# EAGLE library part LIS3LV02DQ (library ST Microelectronics)
MEMS INERTIAL SENSOR
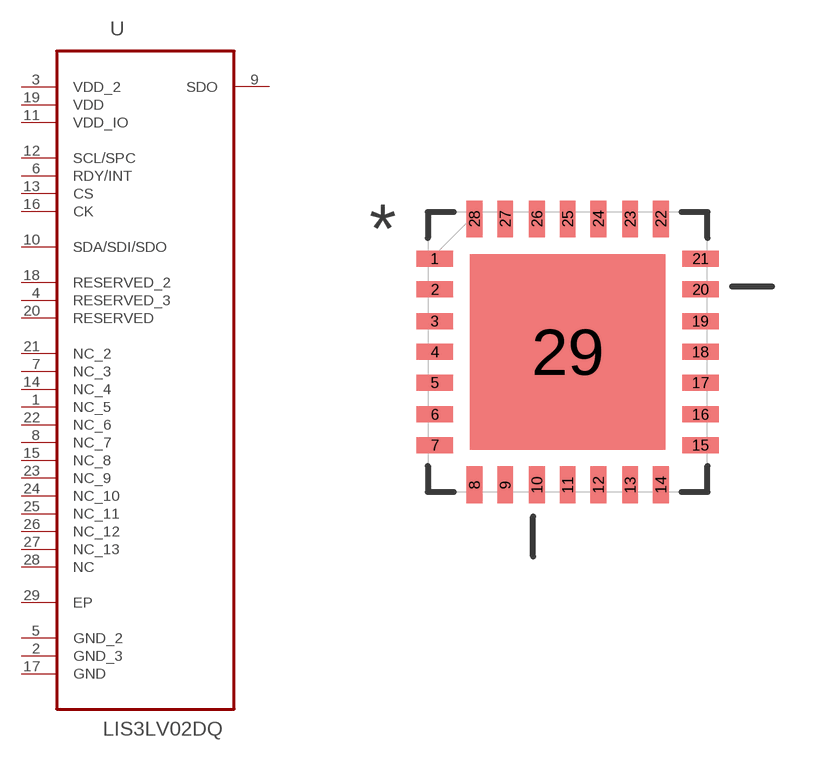
[diagram p84: symbol with the pads of QFN80P700X700X190-29N; footprint QFN80P700X700X190-29N]

Designator prefix U

## LIS3LV02DQ (MPN: LIS3LV02DQ; OC_FARNELL: 1220909; OC_NEWARK: 89K0642; PACKAGE: QFN-28; SUPPLIER: STMICROELECTRONICS)  [QFN80P700X700X190-29N]
1  NC_5  nc
2  GND_3  pas
3  VDD_2  pwr
4  RESERVED_3  pas
5  GND_2  pas
6  RDY/INT  in
7  NC_3  nc
8  NC_7  nc
9  SDO  out
10  SDA/SDI/SDO
11  VDD_IO  pwr
12  SCL/SPC  in
13  CS  in
14  NC_4  nc
15  NC_8  nc
16  CK  in
17  GND  pas
18  RESERVED_2  pas
19  VDD  pwr
20  RESERVED  pwr
21  NC_2  nc
22  NC_6  nc
23  NC_9  nc
24  NC_10  nc
25  NC_11  nc
26  NC_12  nc
27  NC_13  nc
28  NC  nc
29  EP  pas

## Footprint QFN80P700X700X190-29N (pad centres in mm)
smd 0.94 x 0.406: 1 -3.404,2.388; 2 -3.404,1.6; 3 -3.404,0.787; 4 -3.404,0; 5 -3.404,-0.787; 6 -3.404,-1.6; 7 -3.404,-2.388; 15 3.404,-2.388; 16 3.404,-1.6; 17 3.404,-0.787; 18 3.404,0; 19 3.404,0.787; 20 3.404,1.6; 21 3.404,2.388
smd 0.406 x 0.94: 8 -2.388,-3.404; 9 -1.6,-3.404; 10 -0.787,-3.404; 11 0,-3.404; 12 0.787,-3.404; 13 1.6,-3.404; 14 2.388,-3.404; 22 2.388,3.404; 23 1.6,3.404; 24 0.787,3.404; 25 0,3.404; 26 -0.787,3.404; 27 -1.6,3.404; 28 -2.388,3.404
smd 5.004 x 5.004: 29 0,0